# Altium schematic symbol library S1M Series.SchLib: 1 symbol
Pins are listed as number, name and electrical type; pins without a type are passive.

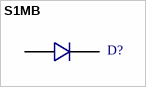
[diagram p0: symbol S1MB]

## S1MB
designator D?, comment S1MB - SMB Package  (value not drawn)
Diode Standard 1000V 1A Surface Mount SMB; Manufacturer 1: Diodes Incorporated; Manufacturer 1 PN: S1MB-13-F; ComponentLink1Description: Datasheet; ComponentLink1URL: https://www.diodes.com/assets/Datasheets/ds16003.pdf; Digikey PN: S1M-FDICT-ND; Current: 1A; Voltage: 1000V
footprint S1MB SMB Package (Diode Standard 1000V 1A Surface Mount SMB)
pins: A, K